# Altium schematic symbol library SchlibBGA_Demo.SchLib: 7 symbols
Pins are listed as number, name and electrical type; pins without a type are passive.

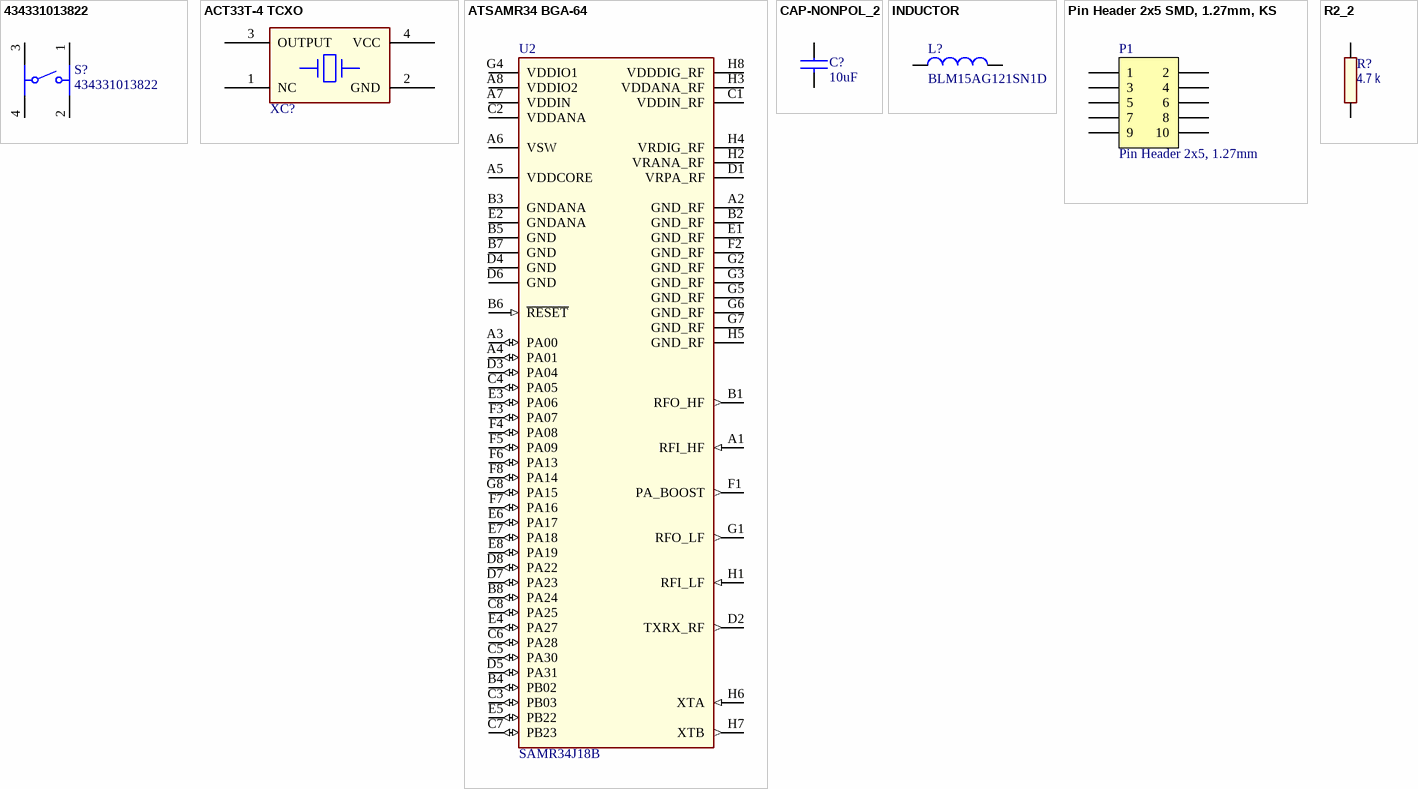
[diagram p0: symbols 434331013822 to R2_2]

## 434331013822
designator S?
WS-TASU SMT Tact Switch 3.5x2.9mm side push; Operation Force: 220g; Rated Voltage: 12VDC; Rated Current: 50mA; Washable: No; ComponentLink1Description: Manufacturer; ComponentLink1URL: http://www.we-online.de; ComponentLink2Description: Datasheet; ComponentLink2URL: https://katalog.we-online.com/em/datasheet/434331013822.pdf; Operating Temperature: -40 to +85degC; Part Number: 434331013822; Published Date: September 2019; Contact Material: Stainless Steel; Height: 1.35mm; Mounting Technology: SMT; Contact Plating: Silver; Packaging: Tape and Reel; Terminal Material: Copper Alloy; Publisher: Wurth Elektronik; Terminal Plating: Silver
footprint 4343x10138xx
pins: 1, 2, 3, 4

## ACT33T-4 TCXO
designator XC?  (value not drawn)
32MHz TCXO, 2.8 ~ 3.3V, Clipped sine wave 10kOhm/10pF, 2 x 1.6 mm SMD; PartGroup: Frequency devices,Oscillators; Manufacturer: Taitien Electronics; MPN: TYETBCSANF-32.000000; AN: A07-0161; Tolerance: +/-1ppm; TemperatureRange: -20  to  +70Â°C; ComponentStatus: 'New (not verified)'; Value: 32MHz TCXO; Height: 0.800000011920929
footprint AP7-00106
pins: 1 NC, 2 GND, 3 OUTPUT, 4 VCC

## ATSAMR34 BGA-64
designator U2  value SAMR34J18B  (hidden comment: ATSAMR34 BGA-64)
SAMR34 BGA-64; PartGroup: Integrated Circuits; AN: A06-1593; ComponentStatus: 'New (not verified)'; Height: 1.20000004768372; FootprintStatus: 'New (Not verified)'
footprint AP6-00509
pins: A1 RFI_HF (in), A2 GND_RF, A3 PA00 (io), A4 PA01 (io), A5 VDDCORE, A6 VSW, A7 VDDIN, A8 VDDIO2, B1 RFO_HF (out), B2 GND_RF, B3 GNDANA, B4 PB02 (io), B5 GND, B6 ~{RESET} (in), B7 GND, B8 PA24 (io), C1 VDDIN_RF, C2 VDDANA, C3 PB03 (io), C4 PA05 (io), C5 PA30 (io), C6 PA28 (io), C7 PB23 (io), C8 PA25 (io), D1 VRPA_RF, D2 TXRX_RF (out), D3 PA04 (io), D4 GND, D5 PA31 (io), D6 GND, D7 PA23 (io), D8 PA22 (io), E1 GND_RF, E2 GNDANA, E3 PA06 (io), E4 PA27 (io), E5 PB22 (io), E6 PA17 (io), E7 PA18 (io), E8 PA19 (io), F1 PA_BOOST (out), F2 GND_RF, F3 PA07 (io), F4 PA08 (io), F5 PA09 (io), F6 PA13 (io), F7 PA16 (io), F8 PA14 (io), G1 RFO_LF (out), G2 GND_RF, G3 GND_RF, G4 VDDIO1, G5 GND_RF, G6 GND_RF, G7 GND_RF, G8 PA15 (io), H1 RFI_LF (in), H2 VRANA_RF, H3 VDDANA_RF, H4 VRDIG_RF, H5 GND_RF, H6 XTA (in), H7 XTB (out), H8 VDDDIG_RF
1 alternate drawing of the same symbol

## CAP-NONPOL_2
designator C?, comment value 10uF  (hidden comment: CAP-NONPOL)
Ceramic capacitor, SMD 0402, X5R, 6.3V, 20%; PartGroup: Capacitors,Ceramic,SMD 0402; Manufacturer: Murata; MPN: GRM155R60J106ME15; AN: A01-0778; Tolerance: +/-20%; TemperatureRange: -55 to 85 Deg.C; ComponentStatus: 'Active (verified)'; Status: Active; Verified by: Lars Helge Mo; Verified date: 2005-12-15; Height: 0.5; FootprintStatus: 'Active (Verified)'
footprint AP1-00101
pins: 1, 2

## INDUCTOR
designator L?, comment value BLM15AG121SN1D  (hidden comment: [APPSSHA])
Chip Bead, 120ohm@100Mhz, 0.55A, 0402, Rdc 0.19ohm; PartGroup: Inductors,EMI; Manufacturer: Murata; AN: A03-0216; Tolerance: 25%; TemperatureRange: -55 to +125â„ƒ; ComponentStatus: 'New (not verified)'; Verified date: 2006-01-30; Verified by: Lars Helge Mo; Status: Active; Height: 0.600000023841858; MPN: BLM15AG121SN1D; FootprintStatus: 'Active (Verified)'
footprint INDC1005X04L (Chip Inductor, 2-Leads, Body 1.0x0.5mm, IPC High Density)
pins: 1, 2

## Pin Header 2x5 SMD, 1.27mm, KS
designator P1, comment Pin Header 2x5, 1.27mm
Pin Header 2x5, 1.27mm (50mil), SMD, Keying Shroud; Part Number: Pin Header 2x5 SMD, 1.27mm, KS; Manufacturer: W-CON; Manufacturer Part Number: 3132-10MS0BK00R1; 2nd source part number: FTSH-105-01-F-DV-K; Artikkelnr Noca: 55010009; Artikkelnr Simpro: N.A.; Datasheet: \\hizz\pro\app9717\Datasheet\connectores\W-CON\3132-XXMXXBK00XX.pdf; Footprint Doc: HDR_2x5-SMD-1.27mm; LatestRevisionDate: 2016-04-21; Pin Count: 10; Publisher: Nordic Semiconductor; Published: 2016-01-22; Value: Pin Header 2x5, 1.27mm; Note: *; Supplier: Cabcon; Supplier part number: 3132-10MS0BK00R1; 2nd source Supplier: Samtec
footprint HDR_2x5-SMD-1.27mm-K
pins: 1, 2, 3, 4, 5, 6, 7, 8, 9, 10

## R2_2
designator R?, comment value 4.7 k  (hidden comment: Chip Resistor 10 kOhm 5% 1/20 W 0201)
Thick film resistor, SMD 0201, 1/20W, 5%; PartGroup: Resistors,SMD,0201 5%; Manufacturer: ROHM; MPN: MCR006YZPJ472; AN: A02-0536; ComponentStatus: 'Active (verified)'; Status: Active; Verified by: Lars Helge Mo; Verified date: 2005-12-19; TemperatureRange: 5%; FootprintStatus: 'Active (Verified)'
footprint RESC1005X04L
pins: 1, 2